# EAGLE library part DAC725 (library ADCs)
Dual 16-Bit DAC
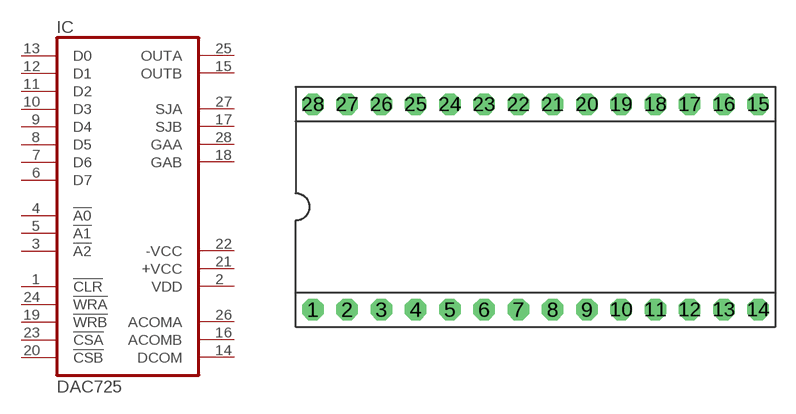
[diagram p168: symbol with the pads of DIL28; footprint DIL28]

Designator prefix IC

## DAC725P (MF: TEXAS INSTRUMENT CONNECTORS; MPN: DAC725JP; OC_FARNELL: unknown; OC_NEWARK: 35C0448)  [DIL28]
1  !CLR  in
2  VDD  pwr
3  !A2  in
4  !A0  in
5  !A1  in
6  D7  in
7  D6  in
8  D5  in
9  D4  in
10  D3  in
11  D2  in
12  D1  in
13  D0  in
14  DCOM  pwr
15  OUTB  out
16  ACOMB  pwr
17  SJB  pas
18  GAB  pas
19  !WRB  in
20  !CSB  in
21  +VCC  pwr
22  -VCC  pwr
23  !CSA  in
24  !WRA  in
25  OUTA  out
26  ACOMA  pwr
27  SJA  pas
28  GAA  pas

## Footprint DIL28 (pad centres in mm)
Dual In Line
drill 0.813 pad 1.6 octagon: 1 -16.51,-7.62; 2 -13.97,-7.62; 3 -11.43,-7.62; 4 -8.89,-7.62; 5 -6.35,-7.62; 6 -3.81,-7.62; 7 -1.27,-7.62; 8 1.27,-7.62; 9 3.81,-7.62; 10 6.35,-7.62; 11 8.89,-7.62; 12 11.43,-7.62; 13 13.97,-7.62; 14 16.51,-7.62; 15 16.51,7.62; 16 13.97,7.62; 17 11.43,7.62; 18 8.89,7.62; 19 6.35,7.62; 20 3.81,7.62; 21 1.27,7.62; 22 -1.27,7.62; 23 -3.81,7.62; 24 -6.35,7.62; 25 -8.89,7.62; 26 -11.43,7.62; 27 -13.97,7.62; 28 -16.51,7.62